# EAGLE library part ACOUSTICLIB_MAX6070 (library LIBRARY)
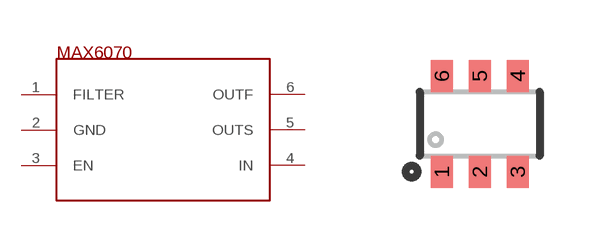
[diagram p3: symbol with the pads of ACOUSTICLIB_SOT26; footprint ACOUSTICLIB_SOT26]

Designator prefix U

## ACOUSTICLIB_MAX6070SOT23  [ACOUSTICLIB_SOT26]
1  FILTER
2  GND
3  EN
4  IN
5  OUTS
6  OUTF

## Footprint ACOUSTICLIB_SOT26 (pad centres in mm)
Footprint for SOT-26 part DMP2240UDM
smd 0.55 x 0.8: 1 -0.95,-1.2; 2 0,-1.2; 3 0.95,-1.2; 4 0.95,1.2; 5 0,1.2; 6 -0.95,1.2